# EAGLE library part DM3D-SF (library 31813 Neutron Readout PCB)
MICRO SD CONNECTOR
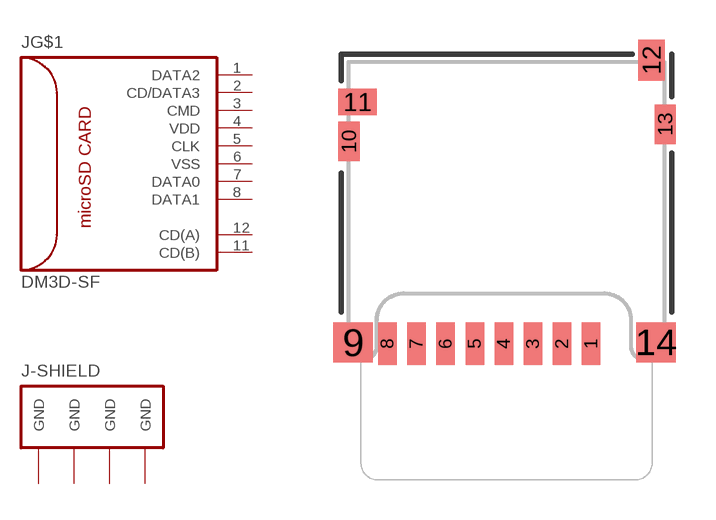
[diagram p12: symbol with the pads of DM3D-SF; footprint DM3D-SF]

Designator prefix J; gates G$1=DM3D-SF-SD-MODE -SHIELD=GND_SHEILD4

## DM3D-SF  [DM3D-SF]
1  G$1:DATA2
2  G$1:CD/DATA3
3  G$1:CMD
4  G$1:VDD  pwr
5  G$1:CLK
6  G$1:VSS  pwr
7  G$1:DATA0
8  G$1:DATA1
9  -SHIELD:GND  pas
10  -SHIELD:GND  pas
11  G$1:CD(B)
12  G$1:CD(A)
13  -SHIELD:GND  pas
14  -SHIELD:GND  pas

## Footprint DM3D-SF (pad centres in mm)
MICRO-SD CARD CONNECTOR
smd 0.7 x 1.6: 1 3.2,0.8; 2 2.1,0.8; 3 1,0.8; 4 -0.1,0.8; 5 -1.2,0.8; 6 -2.3,0.8; 7 -3.4,0.8; 8 -4.5,0.8
smd 1.5 x 1.5: 9 -5.8,0.85; 14 5.65,0.85
smd 0.8 x 1.5: 10 -5.95,8.45; 13 6,9.1
smd 1.45 x 1: 11 -5.625,9.95
smd 1 x 1.55: 12 5.475,11.525